# Altium schematic symbol library SCH - CONNECTORS - MOLEX 643341001.Schlib: 1 symbol
Pins are listed as number, name and electrical type; pins without a type are passive.

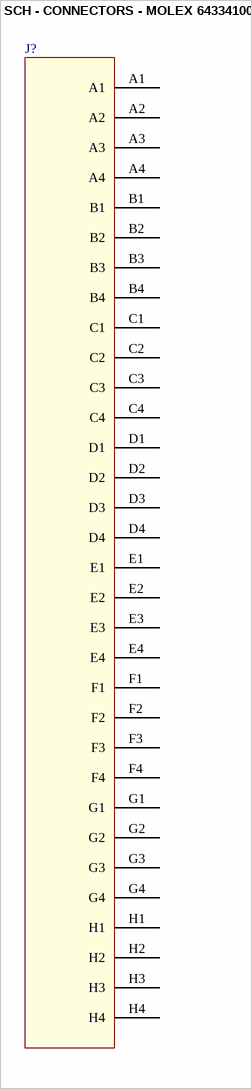
[diagram p0: symbol SCH - CONNECTORS - MOLEX 643341001]

## SCH - CONNECTORS - MOLEX 643341001
designator J?
footprint 643341001 (Molex Connector)
pins: A1, A2, A3, A4, B1, B2, B3, B4, C1, C2, C3, C4, D1, D2, D3, D4, E1, E2, E3, E4, F1, F2, F3, F4, G1, G2, G3, G4, H1, H2, H3, H4